# Altium footprint library MiniMelf.PcbLib: 1 footprints
Each footprint in its own frame and in the unit in brackets; x right, y up, seen from the top. Pads: shape width x height; smd on the part's side, far side on the other; paste and mask are expansions set on the pad; w line width, h text height; cw(c..) or ccw(c..) is an arc to the next point about the centre after c.
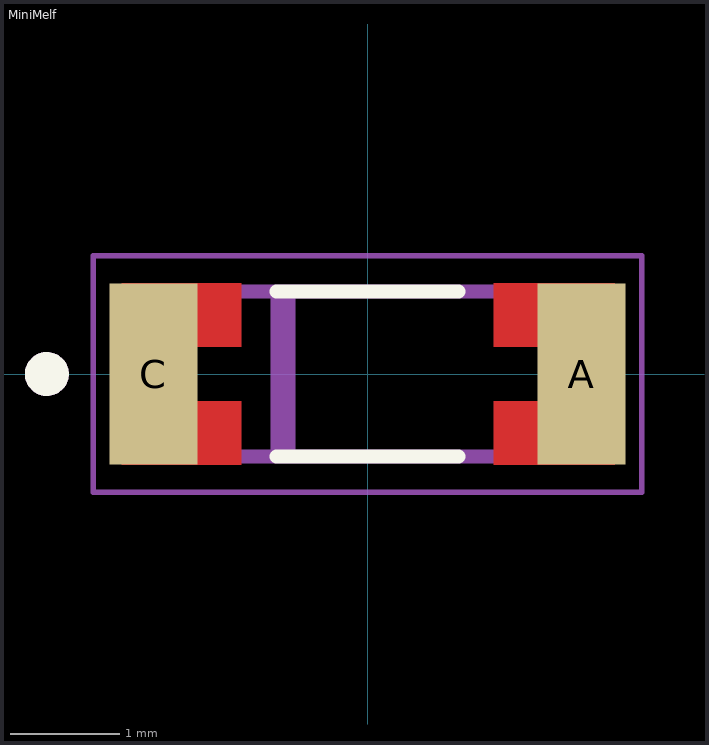
[diagram p0: the footprint, top view; thin cyan lines are the x and y axes]

## MiniMelf [mm]
height 1.5
pads (2):
  rect 0.8x1.65 smd: A(1.95,0) C(-1.95,0)
Top Layer:
  region: 2.25,-0.825 1.15,-0.825 1.15,-0.25 1.65,-0.25 1.65,0.25 1.15,0.25 1.15,0.825 2.25,0.825
  region: -1.15,0.25 -1.65,0.25 -1.65,-0.25 -1.15,-0.25 -1.15,-0.825 -2.24,-0.825 -2.24,0.825 -1.15,0.825
Top Overlay:
  circle w0.2: c-2.921,0 r0.1
  lines w0.127: -0.83,-0.75 0.83,-0.75 ; -0.83,0.75 0.83,0.75
Top Paste:
  region: -1.15,0.25 -1.65,0.25 -1.65,0.825 -1.15,0.825
  region: -1.15,-0.825 -1.65,-0.825 -1.65,-0.25 -1.15,-0.25
  region: -1.15,-0.825 -1.65,-0.825 -1.65,-0.25 -1.15,-0.25
  region: 1.65,-0.825 1.15,-0.825 1.15,-0.25 1.65,-0.25
  region: 1.65,0.25 1.15,0.25 1.15,0.825 1.65,0.825
  region: 1.65,0.25 1.15,0.25 1.15,0.825 1.65,0.825
Top Solder:
  region: -1.05,0.15 -1.55,0.15 -1.55,0.925 -1.05,0.925
  region: -1.05,-0.925 -1.55,-0.925 -1.55,-0.15 -1.05,-0.15
  region: 1.55,-0.925 1.05,-0.925 1.05,-0.15 1.55,-0.15
  region: 1.55,0.15 1.05,0.15 1.05,0.925 1.55,0.925
Mechanical 13:
  circle w0.2: c-2.921,0 r0.1
  lines w0.127: -0.82,-0.75 -0.82,0.75 ; -0.72,-0.75 -0.72,0.75 ; -1.82,-0.75 -1.82,0.75 1.82,0.75 1.82,-0.75 -1.82,-0.75
Mechanical 15:
  lines w0.05: -2.5,-1.075 -2.5,1.075 2.5,1.075 2.5,-1.075 -2.5,-1.075
3D body "step_temp.STEP": height 1.5, standoff 0, extent -1.725,-0.75 1.725,0.75